# Altium footprint library LTC3531ES6-3.PcbLib: 1 footprints
Each footprint in its own frame and in the unit in brackets; x right, y up, seen from the top. Pads: shape width x height; smd on the part's side, far side on the other; paste and mask are expansions set on the pad; w line width, h text height; cw(c..) or ccw(c..) is an arc to the next point about the centre after c.
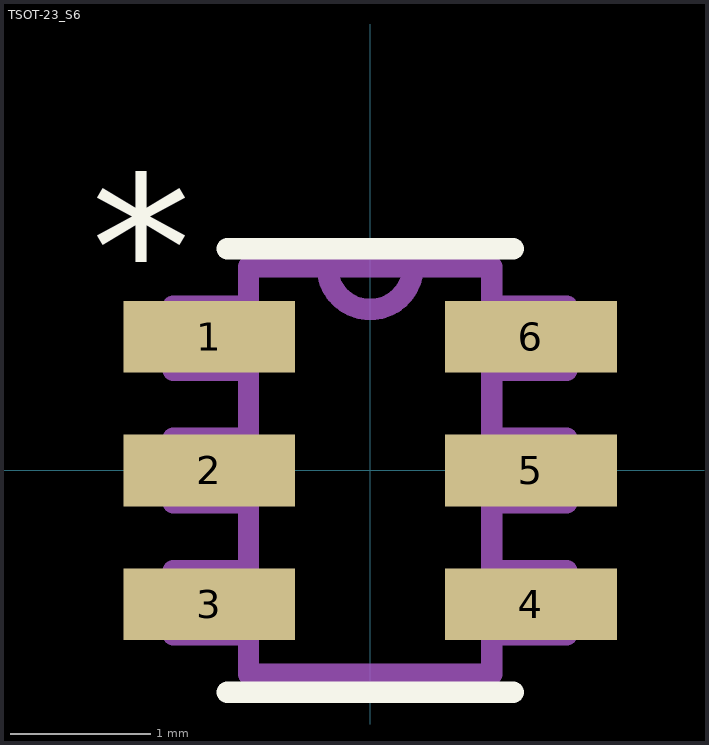
[diagram p0: the footprint, top view; thin cyan lines are the x and y axes]

## TSOT-23_S6 [mil]
pads (6):
  rect 48x20 smd: 1(-45,37.4) 2(-45,0) 3(-45,-37.4) 4(45,-37.4) 5(45,0) 6(45,37.4)
Top Overlay:
  lines w6: -40,-62 40,-62 ; -40,62 40,62
  text "*" at -78,42.16 h73.82
Mechanical 1:
  lines w6: -12,57 ccw(c0,57) 12,57 ; -12,57 -34,57 -34,-57 34,-57 34,57 12,57 ; -12,57 12,57 ; -55,-46 -34,-46 -34,-28 -55,-28 -55,-46 ; -55,-9 -34,-9 -34,9 -55,9 -55,-9 ; -55,28 -34,28 -34,46 -55,46 -55,28 ; 34,-46 55,-46 55,-28 34,-28 34,-46 ; 34,-9 55,-9 55,9 34,9 34,-9 ; 34,28 55,28 55,46 34,46 34,28
  text "*" at -42,-5.84 h73.82